# EAGLE library part CD4052BM (library Tilmann)
CDE4052BM single 8 channel analog multiplexer / demultiplexer Partnr: C6521 Footprint: SO16 datasheet: Link <https://www.ti.com/lit/ds/symlink/cd4052b.pdf?ts=1634656882290&ref_url=https%253A%252F%252Fwww.ti.com%252Fstore%252Fti%252Fen%252Fp%252Fproduct%252F%253Fp%253DCD4052BM> Check prices <https://pricing.snapeda.com/parts/CD4052BM/Texas%20Instruments/view-part?ref=eda>
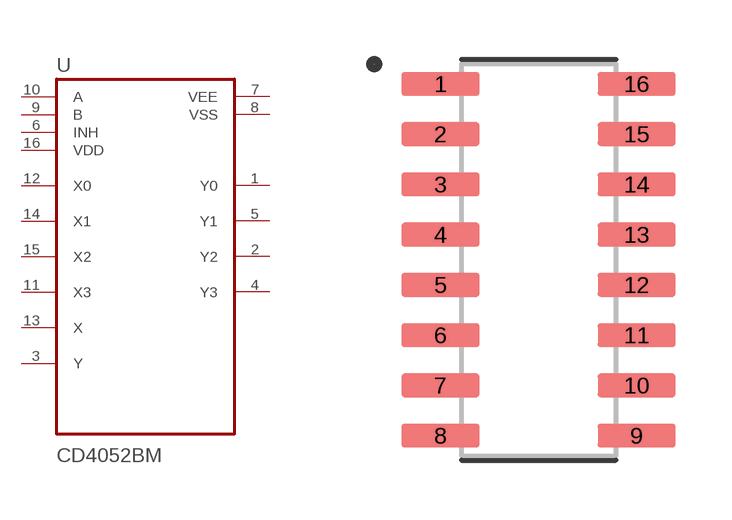
[diagram p8: symbol with the pads of SOIC127P600X175-16N; footprint SOIC127P600X175-16N]

Designator prefix U

## CD4052BM (AVAILABILITY: In Stock; DESCRIPTION: 20-V, 4:1, 2-channel general-purpose multiplexer 16-SOIC -55 to 125; MF: Texas Instruments; MP: CD4052BM; PACKAGE: SOIC-16 Texas Instruments; PRICE: None; PTNR: C6521; PTRNR: C6521; PURCHASE-URL: https://pricing.snapeda.com/search/part/CD4052BM/?ref=eda)  [SOIC127P600X175-16N]
1  Y0
2  Y2
3  Y
4  Y3
5  Y1
6  INH  in
7  VEE  pwr
8  VSS  pwr
9  B  in
10  A  in
11  X3
12  X0
13  X
14  X1
15  X2
16  VDD  in

## Footprint SOIC127P600X175-16N (pad centres in mm)
smd 1.97 x 0.6: 1 -2.475,4.445; 2 -2.475,3.175; 3 -2.475,1.905; 4 -2.475,0.635; 5 -2.475,-0.635; 6 -2.475,-1.905; 7 -2.475,-3.175; 8 -2.475,-4.445; 9 2.475,-4.445; 10 2.475,-3.175; 11 2.475,-1.905; 12 2.475,-0.635; 13 2.475,0.635; 14 2.475,1.905; 15 2.475,3.175; 16 2.475,4.445